# EAGLE library part FDC655BN (library transistor-fet)
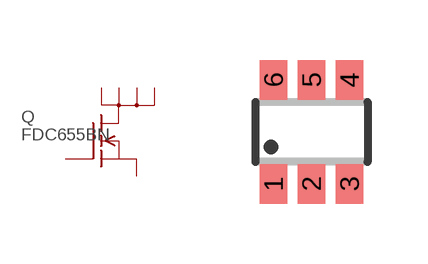
[diagram p3: symbol with the pads of SSOT6; footprint SSOT6]

Designator prefix Q

## FDC655BN  [SSOT6]
1  D1  pas
2  D2  pas
3  G  pas
4  S  pas
5  D4  pas
6  D3  pas

## Footprint SSOT6 (pad centres in mm)
SuperSOT-6 Source: Fairchild Semiconductor International ssot6_dim.pdf September 1998, Rev. A
smd 0.69 x 0.99: 1 -0.95,-1.3; 2 0,-1.3; 3 0.95,-1.3; 4 0.95,1.3; 5 0,1.3; 6 -0.95,1.3